# EAGLE library part USB-MICRO-B (library FlashPCB_Connectors)
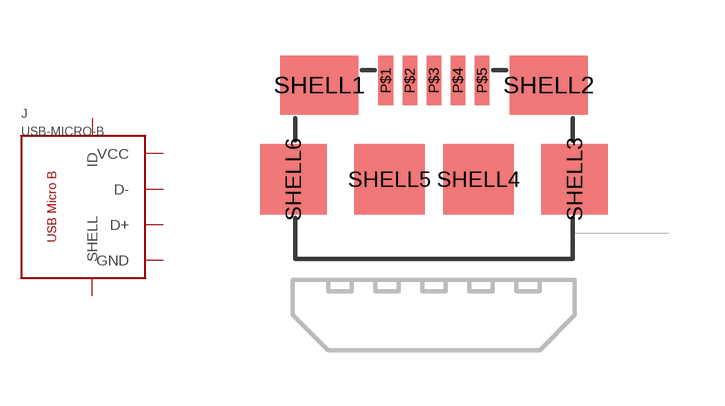
[diagram p4: symbol with the pads of USB-MICRO-B-SMT-RA-AMPH-10118192-0001LF; footprint USB-MICRO-B-SMT-RA-AMPH-10118192-0001LF]

Designator prefix J

## USB-MICRO-B  [USB-MICRO-B-SMT-RA-AMPH-10118192-0001LF]
P$1  VCC  pwr
P$2  D-
P$3  D+
P$4  ID
P$5  GND  pwr
SHELL1  SHELL
SHELL2  SHELL
SHELL3  SHELL
SHELL4  SHELL
SHELL5  SHELL
SHELL6  SHELL

## Footprint USB-MICRO-B-SMT-RA-AMPH-10118192-0001LF (pad centres in mm)
smd 0.4 x 1.35: P$1 -1.3,4.125; P$2 -0.65,4.125; P$3 0,4.125; P$4 0.65,4.125; P$5 1.3,4.125
smd 2.1 x 1.6: SHELL1 -3.1,4; SHELL2 3.1,4
smd 1.8 x 1.9: SHELL3 3.8,1.45; SHELL6 -3.8,1.45
smd 1.9 x 1.9: SHELL4 1.2,1.45; SHELL5 -1.2,1.45